# EAGLE library part 2420-11? (library con-wieson-2420)
2.0mm 2420-11 - 11 pin Source: http://www.jm.pl/karty/2420-XXXT1X-C.pdf
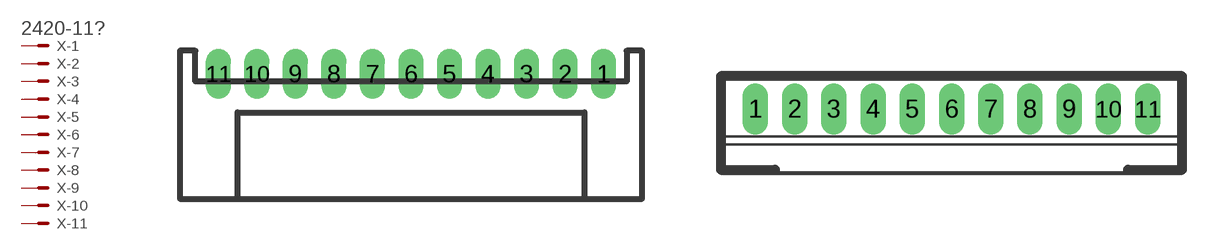
[diagram p6: symbol with the pads of 2420-11R; footprints 2420-11R, 2420-11S]

Designator prefix X; gates -1=MV -2=M -3=M -4=M -5=M -6=M -7=M -8=M -9=M -10=M -11=M

## 2420-11R  [2420-11R]
1  -1:>NAME$
2  -2:>NAME$
3  -3:>NAME$
4  -4:>NAME$
5  -5:>NAME$
6  -6:>NAME$
7  -7:>NAME$
8  -8:>NAME$
9  -9:>NAME$
10  -10:>NAME$
11  -11:>NAME$

## 2420-11S  [2420-11S]
Pads as for 2420-11R

## Footprint 2420-11R (pad centres in mm)
2.0mm right angle 2420-11 - 11 pin Source: http://www.jm.pl/karty/2420-XXXT1X-C.pdf
drill 0.8 long: 1 10,0; 2 8,0; 3 6,0; 4 4,0; 5 2,0; 6 0,0; 7 -2,0; 8 -4,0; 9 -6,0; 10 -8,0; 11 -10,0

## Footprint 2420-11S (pad centres in mm)
2.0mm straight 2420-11 - 11 pin Source: http://www.jm.pl/karty/2420-XXXT1X-C.pdf
drill 0.8 long: 1 -10,0; 2 -8,0; 3 -6,0; 4 -4,0; 5 -2,0; 6 0,0; 7 2,0; 8 4,0; 9 6,0; 10 8,0; 11 10,0